# EAGLE library part BINDER-M12-A-8-PIN (library HyTechDevices)
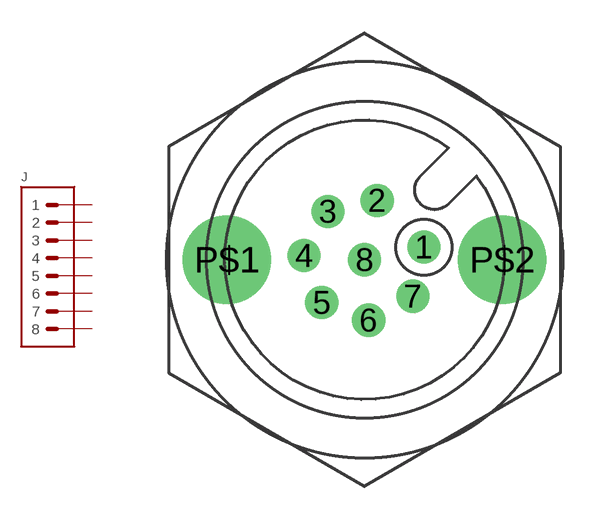
[diagram p70: symbol with the pads of BINDER-8-PIN-M12-A; footprint BINDER-8-PIN-M12-A]

Designator prefix J

## BINDER-M12-A-8-PIN (MANUFACTURER: BINDER; MPN: M12-A- 763)  [BINDER-8-PIN-M12-A]
1  1  pas
2  2  pas
3  3  pas
4  4  pas
5  5  pas
6  6  pas
7  7  pas
8  8  pas

## Footprint BINDER-8-PIN-M12-A (pad centres in mm)
file:///Users/ashish/Downloads/86_0531_1120_00008.pdf
drill 1: 1 2.694,0.573; 2 0.573,2.694; 3 -1.658,2.196; 4 -2.747,0.187; 5 -1.945,-1.945; 6 0.187,-2.747; 7 2.196,-1.658; 8 0,0
drill 3: P$1 -6.251,0; P$2 6.251,0